# Altium schematic symbol library fairchild-transistor.SchLib: 5 symbols
Pins are listed as number, name and electrical type; pins without a type are passive.

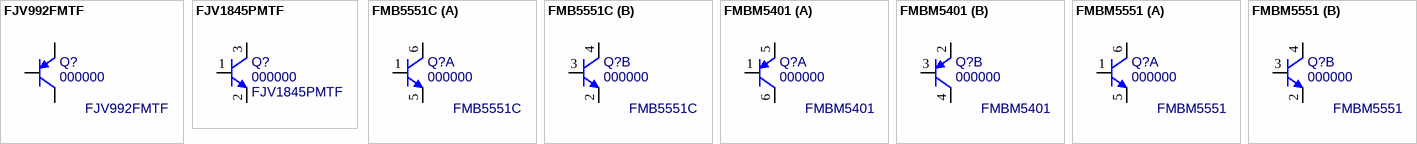
[diagram p0: symbols FJV992FMTF to FMBM5551]

## FJV992FMTF
designator Q?, comment 000000  value FJV992FMTF
PNP Transistor, -120V, -50mA; PN: 000000; Package: SOT-23; ExtraInfo: *
signal-integrity model PNP
footprint SOT-23-M (SOT23, 3-Leads, Body 3.0x2.8mm (max), Pitch 0.95mm, Medium Density)
footprint SOT-23-HV (SOT23, 3-Leads, Body 3.0x2.8mm (max), Pitch 0.95mm, IPC High Density)
pins: 1 B, 2 E, 3 C

## FJV1845PMTF
designator Q?, comment 000000  value FJV1845PMTF
NPN Transistor, 120V, 50mA; PN: 000000; Package: SOT-23; ExtraInfo: *
footprint SOT-23-M (SOT23, 3-Leads, Body 3.0x2.8mm (max), Pitch 0.95mm, Medium Density)
footprint SOT-23-HV (SOT23, 3-Leads, Body 3.0x2.8mm (max), Pitch 0.95mm, IPC High Density)
pins: 1 B, 2 E, 3 C

## FMB5551C
designator Q?, comment 000000  value FMB5551C
160V 600mA - NPN High Voltage Dual Transistor; PN: 000000; Package: SOT32-6; ExtraInfo: *
footprint SOT-23-6 (6-Lead Plastic Small Outline Transistor - Medium Density)
part A pins: 1 B1, 5 E1, 6 C1
part B pins: 2 E2, 3 B2, 4 C2

## FMBM5401
designator Q?, comment 000000  value FMBM5401
-150V -600mA - PNP General-Purpose Amplifier Matched Transistor; PN: 000000; Package: SOT-26; ExtraInfo: *
signal-integrity model PNP
footprint SOT23-6-HV (SOT23, 6-Leads, Body 3.0x3.0mm (max), Pitch 0.95mm, IPC High Voltage)
part A pins: 1 B1, 5 E1, 6 C1
part B pins: 2 E2, 3 B2, 4 C2

## FMBM5551
designator Q?, comment 000000  value FMBM5551
160V 600mA - NPN General-Purpose AMplifier Matched Transistor; PN: 000000; Package: SOT32-6; ExtraInfo: *
footprint SOT23-6-HV (SOT23, 6-Leads, Body 3.0x3.0mm (max), Pitch 0.95mm, IPC High Voltage)
part A pins: 1 B1, 5 E1, 6 C1
part B pins: 2 E2, 3 B2, 4 C2